# Altium schematic symbol library IC_LP2950.SchLib: 1 symbol
Pins are listed as number, name and electrical type; pins without a type are passive.

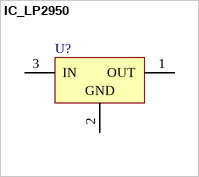
[diagram p0: symbol IC_LP2950]

## IC_LP2950
designator U?
Series of Adjustable Micropower Voltage Regulators, 3-pin TO-92, Pb-Free
pins: 1 OUT (power), 2 GND (power), 3 IN (power)